# Altium schematic symbol library CGA2B3X7R1V104K050BB.SchLib: 1 symbol
Pins are listed as number, name and electrical type; pins without a type are passive.

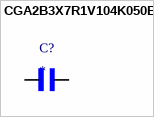
[diagram p0: symbol CGA2B3X7R1V104K050BB]

## CGA2B3X7R1V104K050BB
designator C?  (value not drawn)
Value: *
footprint *CAPC1005X55N
pins: 1, 2